# EAGLE library part MICRO_MATE-N-LOK_6_VERTICAL (library con-tyco-micro-mate-n-lok-old)
2-1445087-6
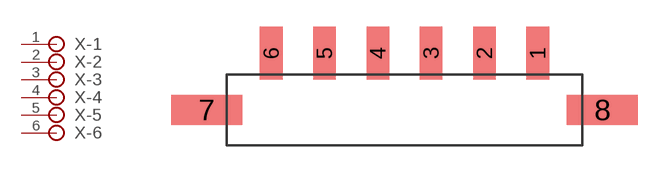
[diagram p7: symbol with the pads of MICRO_MATE-N-LOK_6_SURFACE_VERTICAL; footprint MICRO_MATE-N-LOK_6_SURFACE_VERTICAL]

Designator prefix X; gates -1=PIN -2=PIN -3=PIN -4=PIN -5=PIN -6=PIN

## MICRO_MATE-N-LOK_6_VERTICAL  [MICRO_MATE-N-LOK_6_SURFACE_VERTICAL]
1  -1:P$1
2  -2:P$1
3  -3:P$1
4  -4:P$1
5  -5:P$1
6  -6:P$1

## Footprint MICRO_MATE-N-LOK_6_SURFACE_VERTICAL (pad centres in mm)
smd 1.27 x 3: 1 7.5,3.2; 2 4.5,3.2; 3 1.5,3.2; 4 -1.5,3.2; 5 -4.5,3.2; 6 -7.5,3.2
smd 4 x 1.7: 7 -11.135,0; 8 11.135,0